# Altium schematic symbol library AT90CAN32-16PU.SchLib: 1 symbol
Pins are listed as number, name and electrical type; pins without a type are passive.

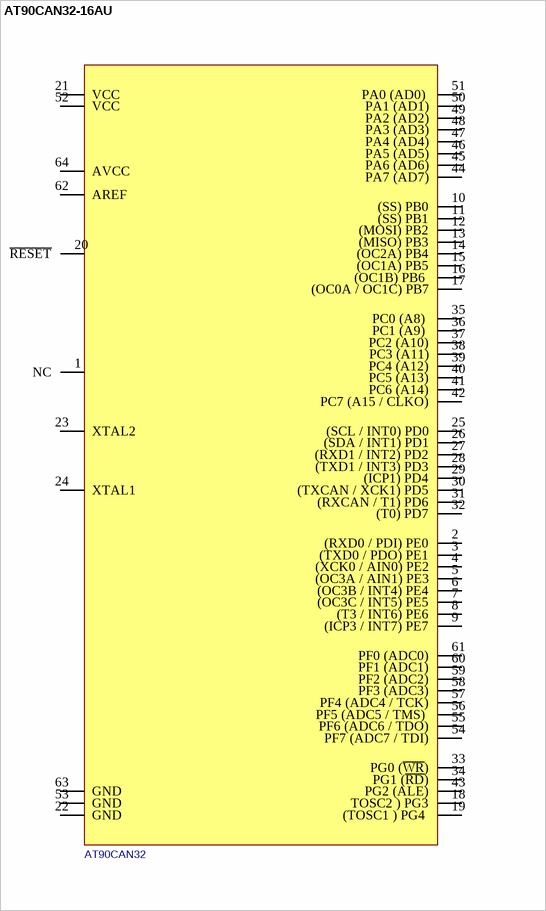
[diagram p0: symbol AT90CAN32-16AU]

## AT90CAN32-16AU
designator U?, comment RC1240
Narrow Band Multi-Channel RF Transceiver Module; rad: 4; rom: OV; lager_type: Fremlager; dybde: 0; hylle: 2; antall: 40; pakke_opprettet_av: 809; pris: 10; pakketype: 21; produsent: Radiocrafts; id: 2359; navn: RC1240; kolonne: 4; pakke_opprettet: 21.06.2014 17:19:32; symbol_opprettet_av: 809; symbol_opprettet: 21.06.2014 17:13:48; nokkelord: Narrow Band Multi-Channel RF Transceiver Module
footprint TQFP64 (Thin QFP, 64-Leads, Body 14x14mm, Pitch 0.8mm, IPC Medium Density)
pins: 1 NC, 2 (RXD0 / PDI) PE0, 3 (TXD0 / PDO) PE1, 4 (XCK0 / AIN0) PE2, 5  (OC3A / AIN1) PE3, 6 (OC3B / INT4) PE4, 7  (OC3C / INT5) PE5, 8 (T3 / INT6) PE6, 9 (ICP3 / INT7) PE7, 10 (SS) PB0, 11 (SS) PB1, 12  (MOSI) PB2, 13 (MISO) PB3, 14 (OC2A) PB4, 15 (OC1A) PB5, 16 (OC1B) PB6 , 17 (OC0A / OC1C) PB7, 18 TOSC2 ) PG3, 19 (TOSC1 ) PG4 , 20 ~{RESET}, 21 VCC, 22 GND, 23 XTAL2, 24 XTAL1, 25  (SCL / INT0) PD0, 26  (SDA / INT1) PD1, 27  (RXD1 / INT2) PD2, 28  (TXD1 / INT3) PD3, 29  (ICP1) PD4, 30 (TXCAN / XCK1) PD5, 31  (RXCAN / T1) PD6, 32  (T0) PD7, 33 PG0 (~{WR}), 34 PG1 (~{RD}), 35 PC0 (A8) , 36 PC1 (A9) , 37 PC2 (A10), 38 PC3 (A11), 39 PC4 (A12), 40 PC5 (A13), 41 PC6 (A14), 42 PC7 (A15 / CLKO), 43 PG2 (ALE), 44 PA7 (AD7), 45 PA6 (AD6), 46 PA5 (AD5), 47 PA4 (AD4), 48 PA3 (AD3), 49 PA2 (AD2), 50 PA1 (AD1), 51 PA0 (AD0) , 52 VCC, 53 GND, 54 PF7 (ADC7 / TDI), 55 PF6 (ADC6 / TDO), 56 PF5 (ADC5 / TMS) , 57 PF4 (ADC4 / TCK), 58 PF3 (ADC3), 59 PF2 (ADC2), 60 PF1 (ADC1), 61 PF0 (ADC0), 62 AREF, 63 GND, 64 AVCC
text: AT90CAN32